# Altium integrated library Dallas Peripheral Speech Processor.IntLib: 4 symbols
Pins are listed as number, name and electrical type; pins without a type are passive.

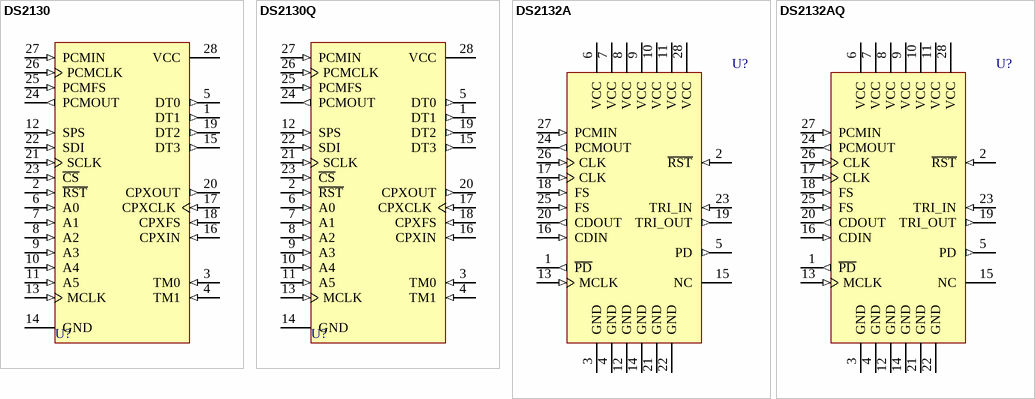
[diagram p0: symbols DS2130 to DS2132AQ]

## DS2130
designator U?
Voice Messaging Processor; Published: 13-Oct-2000; LatestRevisionDate: 06-Jun-2005; LatestRevisionNote: Stylized 3D Model Added.; DatasheetVersion: 26-Feb-1998; PackageVersion: 1998; PackageReference: DIP28WB; Publisher: Altium Limited; PackageDescription: DIP; 28 Leads; Row Spacing 15.24 mm; Pitch 2.54 mm; ComponentLink1Description: Manufacturer Link; ComponentLink1URL: http://www.maxim-ic.com/
footprint DIP28WB (DIP; 28 Leads; Row Spacing 15.24 mm; Pitch 2.54 mm)
3D model DIP28W (DIP; 28 Leads; Row Spacing 15.24 mm; Pitch 2.54 mm)
pins: 1 DT1 (out), 2 ~{RST} (in), 3 TM0 (in), 4 TM1 (in), 5 DT0 (out), 6 A0 (in), 7 A1 (in), 8 A2 (in), 9 A3 (in), 10 A4 (in), 11 A5 (in), 12 SPS (in), 13 MCLK (in), 14 GND (power), 15 DT3 (out), 16 CPXIN (in), 17 CPXCLK (in), 18 CPXFS (in), 19 DT2 (out), 20 CPXOUT (out), 21 SCLK (in), 22 SDI (in), 23 ~{CS} (in), 24 PCMOUT (out), 25 PCMFS (in), 26 PCMCLK (in), 27 PCMIN (in), 28 VCC (power)

## DS2130Q
designator U?
Voice Messaging Processor; Note: Pin number 15 is Not Connected (NC); Published: 13-Oct-2000; LatestRevisionDate: 13-Apr-2006; LatestRevisionNote: IPC-7351 Footprint Added.; DatasheetVersion: 26-Feb-1998; PackageVersion: Rev D, Feb-2006; PackageReference: PLCC28; Publisher: Altium Limited; PackageDescription: 28-Pin Leaded Chip Carrier 1.27 mm Pitch; Code_IPC: PLCC-28; ComponentLink1Description: Manufacturer Link; ComponentLink1URL: http://www.maxim-ic.com/
footprint PLCC28_N (Leaded Chip Carrier, 28-Leads, Body 11.5x11.5mm, Pitch 1.27mm, IPC Medium Density)
footprint PLCC28_L (Leaded Chip Carrier, 28-Leads, Body 11.5x11.5mm, Pitch 1.27mm, IPC High Density)
footprint PLCC28_M (Leaded Chip Carrier, 28-Leads, Body 11.5x11.5mm, Pitch 1.27mm, IPC Low Density)
3D model DS2130-PLCC28C (28-Pin Leaded Chip Carrier 1.27 mm Pitch)
pins: 1 DT1 (out), 2 ~{RST} (in), 3 TM0 (in), 4 TM1 (in), 5 DT0 (out), 6 A0 (in), 7 A1 (in), 8 A2 (in), 9 A3 (in), 10 A4 (in), 11 A5 (in), 12 SPS (in), 13 MCLK (in), 14 GND (power), 15 DT3 (out), 16 CPXIN (in), 17 CPXCLK (in), 18 CPXFS (in), 19 DT2 (out), 20 CPXOUT (out), 21 SCLK (in), 22 SDI (in), 23 ~{CS} (in), 24 PCMOUT (out), 25 PCMFS (in), 26 PCMCLK (in), 27 PCMIN (in), 28 VCC (power)

## DS2132A
designator U?
Digital Answering Machine Processor; Published: 13-Oct-2000; LatestRevisionDate: 06-Jun-2005; LatestRevisionNote: Stylized 3D Model Added.; DatasheetVersion: 26-Feb-1998; PackageVersion: 1999; PackageReference: DIP28W; Publisher: Altium Limited; PackageDescription: DIP; 28 Leads; Row Spacing 15.24 mm; Pitch 2.54 mm; ComponentLink1Description: Manufacturer Link; ComponentLink1URL: http://www.maxim-ic.com/; ComponentLink2Description: Discontinuation Notice; ComponentLink2URL: http://www.maxim-ic.com/qa/pdfs/non-obsolescence-letter.pdf
footprint DIP28W (DIP; 28 Leads; Row Spacing 15.24 mm; Pitch 2.54 mm)
3D model DIP28W (DIP; 28 Leads; Row Spacing 15.24 mm; Pitch 2.54 mm)
pins: 1 ~{PD} (out), 2 ~{RST} (in), 3 GND (power), 4 GND (power), 5 PD (out), 6 VCC (power), 7 VCC (power), 8 VCC (power), 9 VCC (power), 10 VCC (power), 11 VCC (power), 12 GND (power), 13 MCLK (in), 14 GND (power), 15 NC, 16 CDIN (in), 17 CLK (in), 18 FS (in), 19 TRI_OUT (out), 20 CDOUT (out), 21 GND (power), 22 GND (power), 23 TRI_IN (in), 24 PCMOUT (out), 25 FS (in), 26 CLK (in), 27 PCMIN (in), 28 VCC (power)

## DS2132AQ
designator U?
Digital Answering Machine Processor; Note: Pin number 15 is Not Connected (NC); Published: 13-Oct-2000; LatestRevisionDate: 13-Apr-2006; LatestRevisionNote: IPC-7351 Footprint Added.; DatasheetVersion: 26-Feb-1998; PackageVersion: Rev D, Feb-2006; PackageReference: PLCC28; Publisher: Altium Limited; PackageDescription: 28-Pin Leaded Chip Carrier 1.27 mm Pitch; Code_IPC: PLCC-28; ComponentLink1Description: Manufacturer Link; ComponentLink1URL: http://www.maxim-ic.com/; ComponentLink2Description: Discontinuation Notice; ComponentLink2URL: http://www.maxim-ic.com/qa/pdfs/non-obsolescence-letter.pdf
footprint PLCC28_N (Leaded Chip Carrier, 28-Leads, Body 11.5x11.5mm, Pitch 1.27mm, IPC Medium Density)
footprint PLCC28_L (Leaded Chip Carrier, 28-Leads, Body 11.5x11.5mm, Pitch 1.27mm, IPC High Density)
footprint PLCC28_M (Leaded Chip Carrier, 28-Leads, Body 11.5x11.5mm, Pitch 1.27mm, IPC Low Density)
3D model DS2132-PLCC28C (28-Pin Leaded Chip Carrier 1.27 mm Pitch)
pins: 1 ~{PD} (out), 2 ~{RST} (in), 3 GND (power), 4 GND (power), 5 PD (out), 6 VCC (power), 7 VCC (power), 8 VCC (power), 9 VCC (power), 10 VCC (power), 11 VCC (power), 12 GND (power), 13 MCLK (in), 14 GND (power), 15 NC, 16 CDIN (in), 17 CLK (in), 18 FS (in), 19 TRI_OUT (out), 20 CDOUT (out), 21 GND (power), 22 GND (power), 23 TRI_IN (in), 24 PCMOUT (out), 25 FS (in), 26 CLK (in), 27 PCMIN (in), 28 VCC (power)